# Altium footprint library NMOS_Fairchild_FDV301_SOT23-3.PcbLib: 1 footprints
Each footprint in its own frame and in the unit in brackets; x right, y up, seen from the top. Pads: shape width x height; smd on the part's side, far side on the other; paste and mask are expansions set on the pad; w line width, h text height; cw(c..) or ccw(c..) is an arc to the next point about the centre after c.
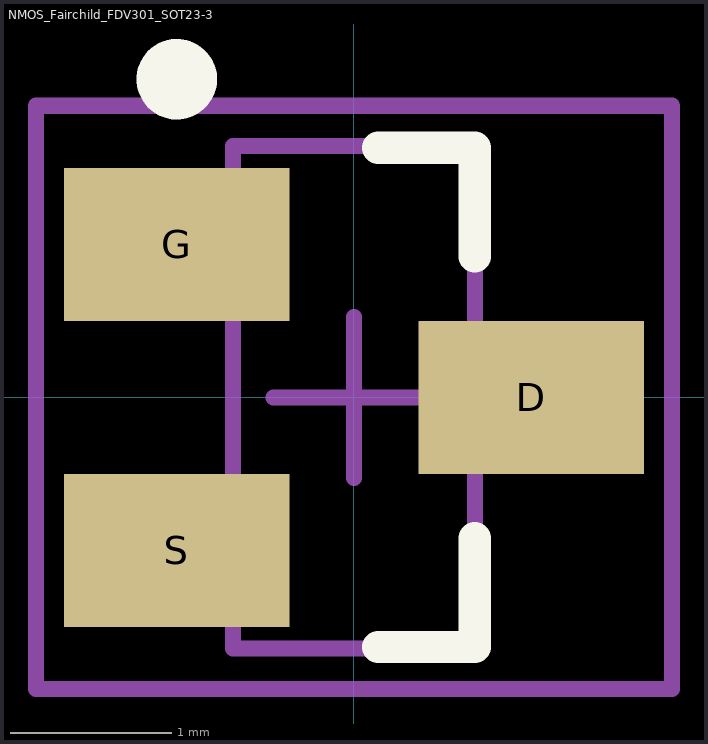
[diagram p0: the footprint, top view; thin cyan lines are the x and y axes]

## NMOS_Fairchild_FDV301_SOT23-3 [mm]
height 1.2
pads (3):
  rect 1.4x0.95 smd: D(1.1,0) G(-1.1,0.95) S(-1.1,-0.95)
Top Overlay:
  circle w0.25: c-1.1,1.975 r0.125
  lines w0.2: 0.15,-1.55 0.75,-1.55 0.75,-0.875 ; 0.15,1.55 0.75,1.55 0.75,0.875
Mechanical 13:
  lines w0.1: -0.75,-1.56 -0.75,1.56 0.75,1.56 0.75,-1.56 -0.75,-1.56
Mechanical 15:
  lines w0.1: -0.5,0 0.5,0 ; 0,-0.5 0,0.5 ; -1.975,-1.81 -1.975,1.81 1.975,1.81 1.975,-1.81 -1.975,-1.81
3D body: height 1.2, standoff 0, extent -0.75,-1.56 0.75,1.56